# EAGLE library part PGA2311 (library Stofer)
Stereo Programmable Gain Amplifier
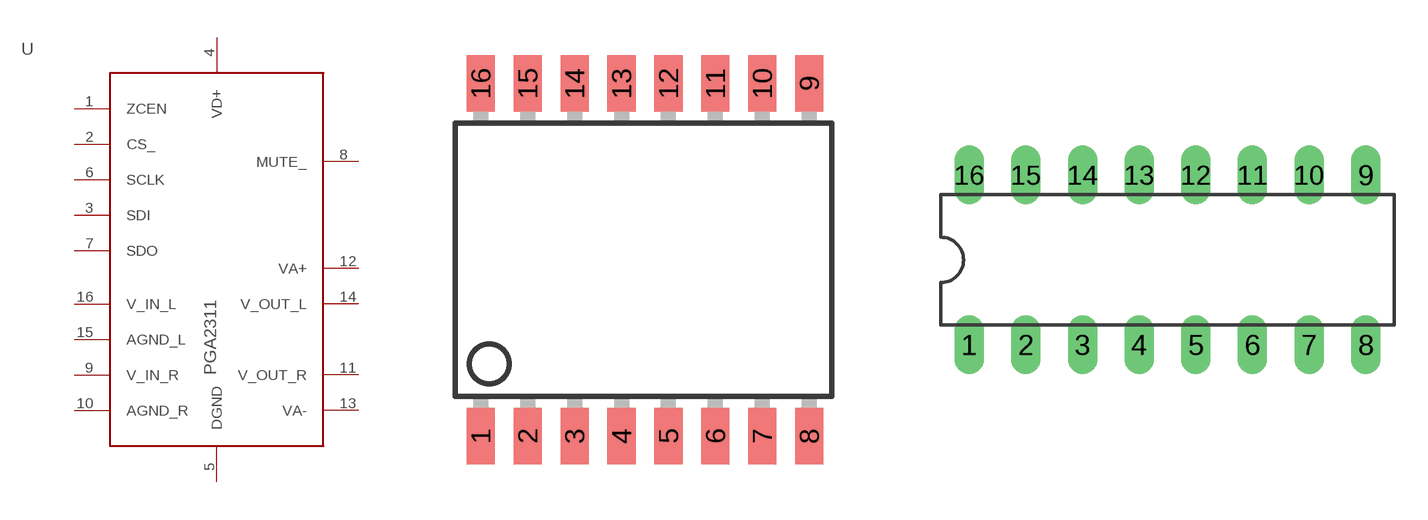
[diagram p21: symbol with the pads of SO16-1; footprints SO16-1, DIL16]

Designator prefix -

## PGA2311SO16_L  [SO16-1]
1  ZCEN
2  CS_
3  SDI
4  VD+
5  DGND
6  SCLK
7  SDO
8  MUTE_
9  V_IN_R
10  AGND_R
11  V_OUT_R
12  VA+
13  VA-
14  V_OUT_L
15  AGND_L
16  V_IN_L

## PGA2311DIL16  [DIL16]
Pads as for SO16-1

## Footprint SO16-1 (pad centres in mm)
Small Outline Package
smd 0.762 x 1.524: 1 -4.445,-4.775; 2 -3.175,-4.775; 3 -1.905,-4.775; 4 -0.635,-4.775; 5 0.635,-4.775; 6 1.905,-4.775; 7 3.175,-4.775; 8 4.445,-4.775; 9 4.445,4.775; 10 3.175,4.775; 11 1.905,4.775; 12 0.635,4.775; 13 -0.635,4.775; 14 -1.905,4.775; 15 -3.175,4.775; 16 -4.445,4.775

## Footprint DIL16 (pad centres in mm)
Dual In Line Package
drill 0.813 long: 1 -8.89,-3.81; 2 -6.35,-3.81; 3 -3.81,-3.81; 4 -1.27,-3.81; 5 1.27,-3.81; 6 3.81,-3.81; 7 6.35,-3.81; 8 8.89,-3.81; 9 8.89,3.81; 10 6.35,3.81; 11 3.81,3.81; 12 1.27,3.81; 13 -1.27,3.81; 14 -3.81,3.81; 15 -6.35,3.81; 16 -8.89,3.81